# Altium integrated library Analog_DAC.IntLib: 2 symbols
Pins are listed as number, name and electrical type; pins without a type are passive.

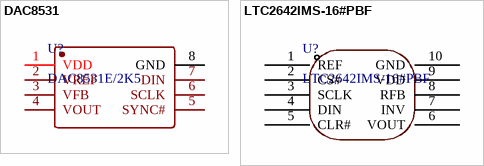
[diagram p0: symbols DAC8531 to LTC2642IMS-16#PBF]

## DAC8531
designator U?, comment DAC8531E/2K5
Low-Power, Rail-to-Rail Output, 16-Bit Serial Input DIGITAL-TO-ANALOG CONVERTER
footprint MSOP-8_L3.0-W3.0-P0.65-LS4.9-BL
pins: 1 VDD, 2 VREF, 3 VFB, 4 VOUT, 5 SYNC#, 6 SCLK, 7 DIN, 8 GND

## LTC2642IMS-16#PBF
designator U?
16-/14-/12-Bit VOUT DACs in 3mm × 3mm DFN
footprint MSOP-10_L3.0-W3.0-P0.50-LS5.0-BL
pins: 1 REF, 2 CS#, 3 SCLK, 4 DIN, 5 CLR#, 6 VOUT, 7 INV, 8 RFB, 9 VDD, 10 GND